# Altium footprint library SOD-89.PcbLib: 1 footprints
Each footprint in its own frame and in the unit in brackets; x right, y up, seen from the top. Pads: shape width x height; smd on the part's side, far side on the other; paste and mask are expansions set on the pad; w line width, h text height; cw(c..) or ccw(c..) is an arc to the next point about the centre after c.
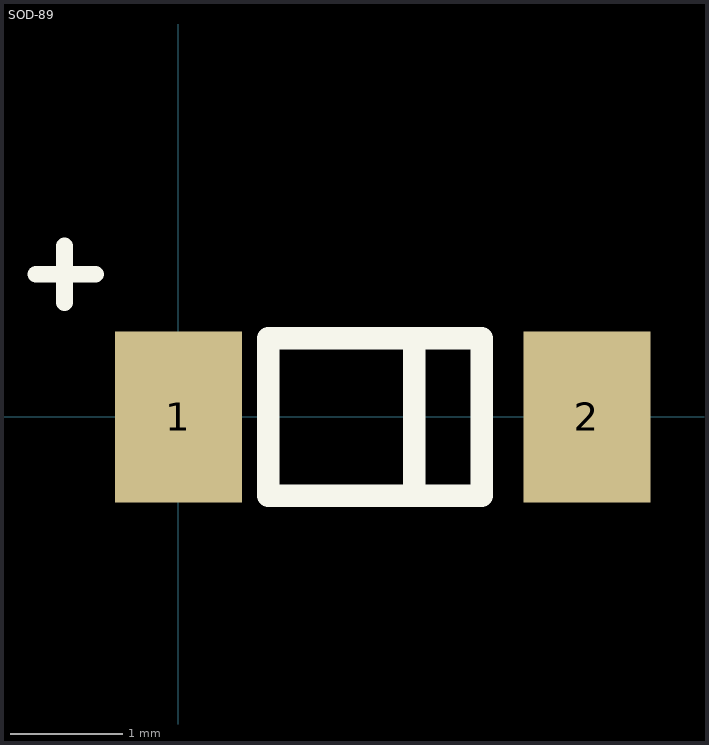
[diagram p0: the footprint, top view; thin cyan lines are the x and y axes]

## SOD-89 [mm]
pads (2):
  rect 1.13x1.52 smd: 1(0,0) 2(3.635,0)
Top Overlay:
  lines w0.15: -1.27,1.27 -0.74,1.27 ; -1.016,1.016 -1.016,1.524
  lines w0.2: 2.1,-0.7 2.1,0.7 ; 0.8,-0.7 0.8,0.7 2.7,0.7 2.7,-0.7 0.8,-0.7
3D body "User Library-SOD80-3.STEP": height 1.5, standoff 0, extent 0,-0.75 3.6,0.75